# EAGLE library part LM324ADT (library lib_paul)
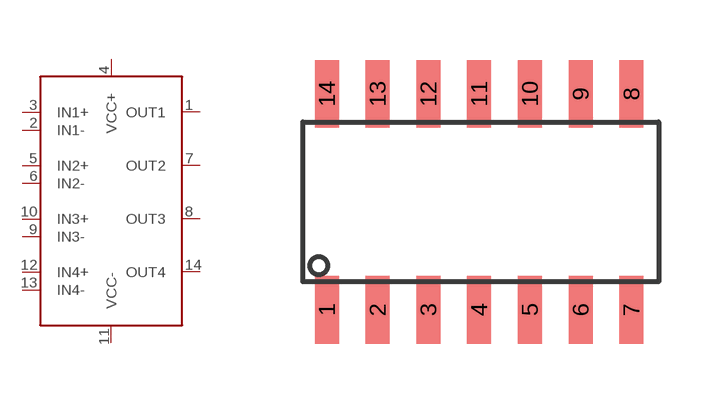
[diagram p16: symbol with the pads of SMD_D14; footprint SMD_D14]

Designator prefix -

## LM324ADT  [SMD_D14]
1  OUT1
2  IN1-
3  IN1+
4  VCC+
5  IN2+
6  IN2-
7  OUT2
8  OUT3
9  IN3-
10  IN3+
11  VCC-
12  IN4+
13  IN4-
14  OUT4

## Footprint SMD_D14 (pad centres in mm)
smd 0.6 x 1.7: 1 0,0; 2 1.27,0; 3 2.54,0; 4 3.81,0; 5 5.08,0; 6 6.35,0; 7 7.62,0; 8 7.62,5.4; 9 6.35,5.4; 10 5.08,5.4; 11 3.81,5.4; 12 2.54,5.4; 13 1.27,5.4; 14 0,5.4